# Altium schematic symbol library Schlib1.SchLib: 390 symbols (part 3 of 5)
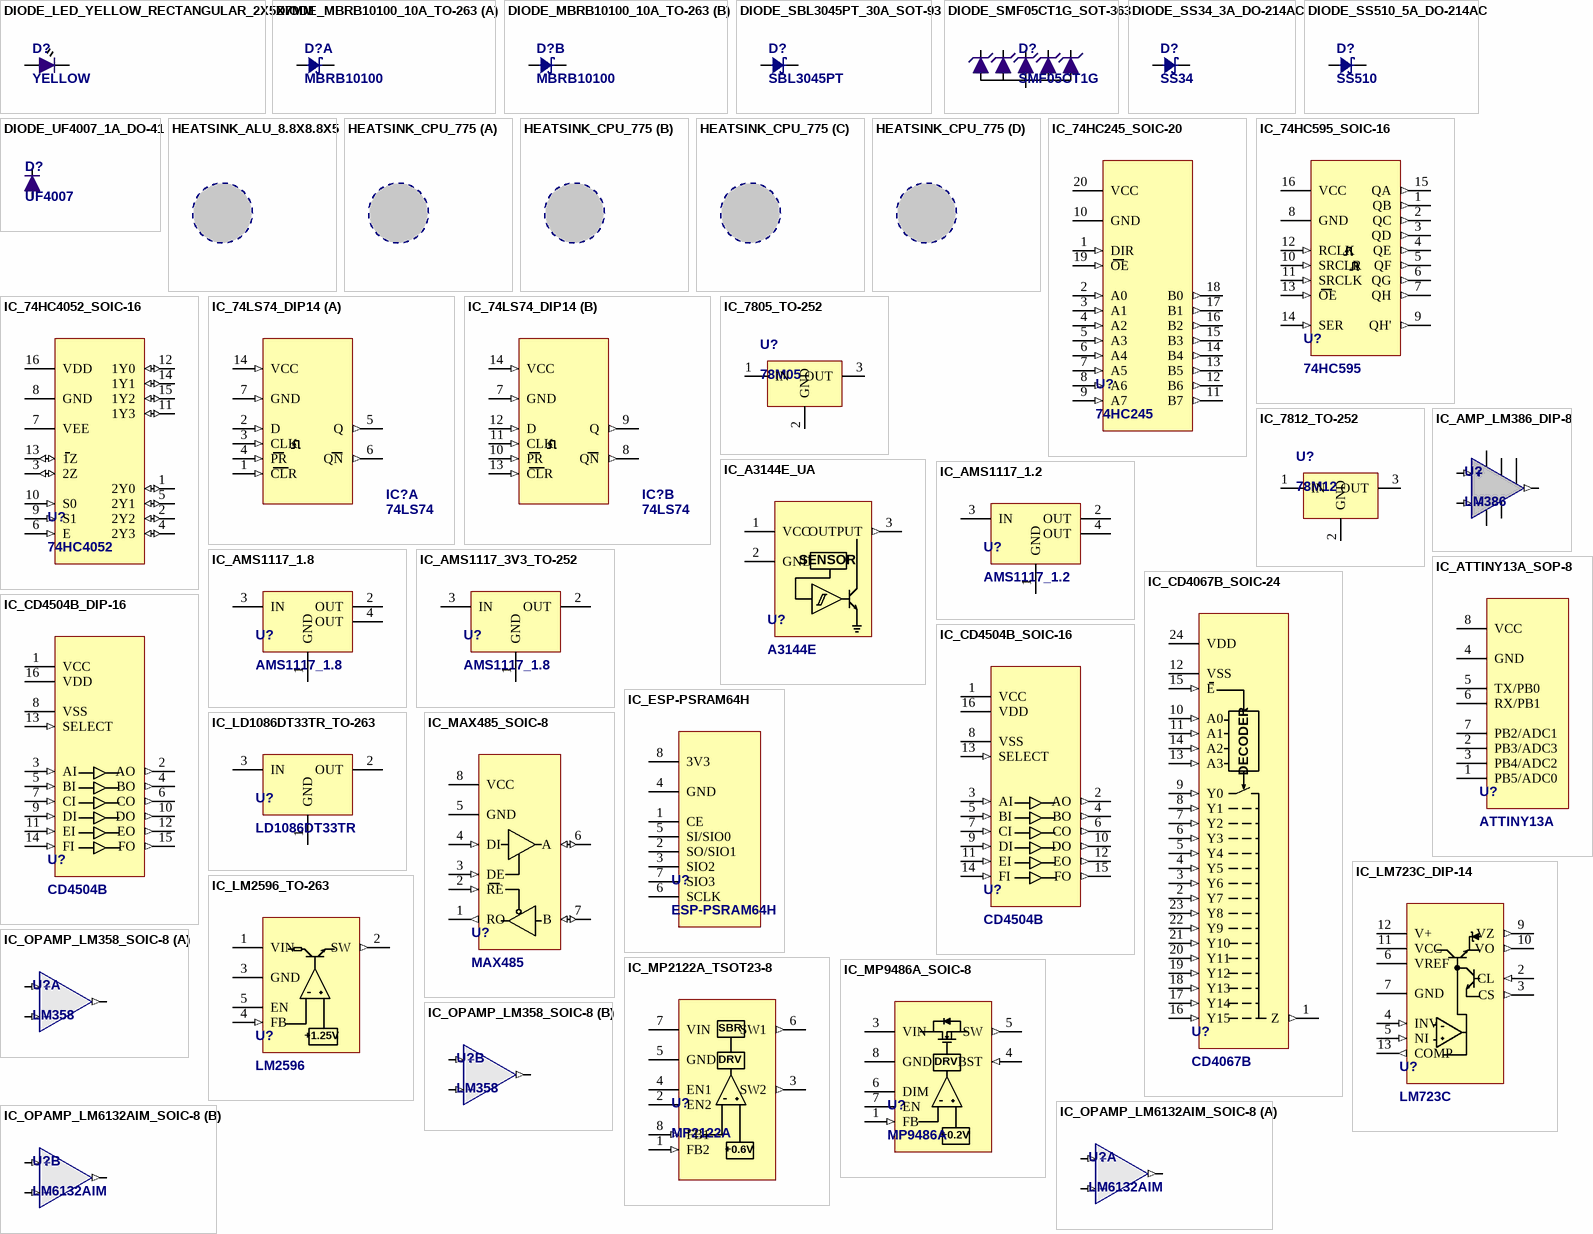
[diagram p12: symbols DIODE_LED_YELLOW_RECTANGULAR_2X5X7MM to IC_OPAMP_LM6132AIM_SOIC-8]

## IC_AMS1117_1.8
designator U?, comment AMS1117_1.8
1A LOW DROPOUT VOLTAGE REGULATOR, Vmax 15; Container: COMMON_IC; ComponentLink1Description: Datasheet; ComponentLink1URL: E:\NEW_DATA\ELECTRONIC_DOCUMENT\DATASHEET\ds1117.pdf; Price: 0.027; Package: SMD; Stock: 3; Label: AMS1117; Manufacturer: https://shopee.vn/Set-70-B%E1%BB%99-%C4%90i%E1%BB%81u-Ch%E1%BB%89nh-%C4%90i%E1%BB%87n-%C3%81p-AMS1117-1.2V-1.5V-1.8V-2.5V-3.3V-5.0V-ADJ-AMS1117-3.3V-AMS1117-3.3-AMS1117-5.0-7-Gi%C3%A1-Tr%E1%BB%8B-M%E1%BB%97i-Lo%E1%BA%A1i-i.778834786.19805430939?sp_atk=74066310-54b3-4280-a069-18140e90727b&xptdk=74066310-54b3-4280-a069-18140e90727b; Temperature Range: -40 to +125 degC
footprint SOT223(1234)
simulation model NCP1117_18-X ($)
pins: 1 GND, 2 OUT (power), 3 IN (power), 4 OUT

## IC_AMS1117_3V3_TO-252
designator U?, comment AMS1117_1.8
1A LOW DROPOUT VOLTAGE REGULATOR, Vmax 15V; Container: COMMON_IC; ComponentLink1Description: Datasheet; ComponentLink1URL: E:\NEW_DATA\ELECTRONIC_DOCUMENT\DATASHEET\ds1117.pdf; Price: 0.11; Package: SMD; Stock: 10; Label: AMS1117; Manufacturer: https://shopee.vn/Set-70-B%E1%BB%99-%C4%90i%E1%BB%81u-Ch%E1%BB%89nh-%C4%90i%E1%BB%87n-%C3%81p-AMS1117-1.2V-1.5V-1.8V-2.5V-3.3V-5.0V-ADJ-AMS1117-3.3V-AMS1117-3.3-AMS1117-5.0-7-Gi%C3%A1-Tr%E1%BB%8B-M%E1%BB%97i-Lo%E1%BA%A1i-i.778834786.19805430939?sp_atk=74066310-54b3-4280-a069-18140e90727b&xptdk=74066310-54b3-4280-a069-18140e90727b; Temperature Range: -40 to +125 degC
footprint TO252
simulation model NCP1117_33-X ($)
footprint TO252AA
pins: 1 GND, 2 OUT (power), 3 IN (power)

## IC_ATTINY13A_SOP-8
designator U?, comment ATTINY13A
tinyAVR® Data Sheet, Fmax 500kHz, 1KB Flash, 64 Bytes EEPROM, 64 Bytes SRAM, Vcc=2~6V, 4 channel ADC, Timer.; Container: COMMON_IC; Label: MODULATORS; ComponentLink1Description: Datasheet; ComponentLink1URL: E:\NEW_DATA\ELECTRONIC_DOCUMENT\DATASHEET\ATtiny13A-Data-Sheet-DS40002307A.pdf; Package: TH; Stock: 0; Temperature Range: -25 to +85 degC
footprint SOIC-8S (SOIC, 8-Leads, Body 4.9x3.9mm, Pitch 1.27mm, IPC High Density)
pins: 1 PB5/ADC0 (power), 2 PB3/ADC3 (power), 3 PB4/ADC2 (power), 4 GND (power), 5 TX/PB0 (power), 6 RX/PB1 (power), 7 PB2/ADC1 (power), 8 VCC (power)

## IC_CD4067B_SOIC-24
designator U?, comment CD4067B
16-Channel analog multiplexer/demultiplexer.; Container: DIGITAL_IC; Label: CD4067; Price: 0.63; Package: SMD; Stock: 0; Manufacturer: https://detail.tmall.com/item.htm?spm=a230r.1.14.18.6abd6925rc8xFr&id=43788809502&ns=1&abbucket=16; Temperature Range: -40 to +85 degC; ComponentLink1Description: Datasheet; ComponentLink1URL: E:\NEW_DATA\ELECTRONIC_DOCUMENT\DATASHEET\HEF4067B.pdf
footprint SOIC-24 (SOIC, 24-Leads, Body 15.30x7.50mm, Pitch 1.27mm, IPC Medium Density)
pins: 1 Z (out), 2 Y7 (in), 3 Y6 (in), 4 Y5 (in), 5 Y4 (in), 6 Y3 (in), 7 Y2 (in), 8 Y1 (in), 9 Y0 (in), 10 A0 (in), 11 A1 (in), 12 VSS (power), 13 A3 (in), 14 A2 (in), 15 E (in), 16 Y15 (in), 17 Y14 (in), 18 Y13 (in), 19 Y12 (in), 20 Y11 (in), 21 Y10 (in), 22 Y9 (in), 23 Y8 (in), 24 VDD (power)
text: DECODER

## IC_CD4504B_DIP-16
designator U?, comment CD4504B
Hex Voltage Level Shifter, CMOS to CMOS or TTL to CMOS.; Container: DIGITAL_IC; ComponentLink1Description: Datasheet; ComponentLink1URL: E:\NEW_DATA\ELECTRONIC_DOCUMENT\DATASHEET\CD4504B.pdf; Package: TH; Price: 0.16; Label: CD4504B; Manufacturer: https://item.taobao.com/item.htm?spm=a230r.1.14.18.352b3781l4X1rw&id=527105592533&ns=1&abbucket=16#detail; Temperature Range: -55 to +125 degC; Stock: 0
footprint DIP16
footprint DIP16_SOCKET (16 PIN, W 300mil, Pin to pin 100mil)
pins: 1 VCC (power), 2 AO (out), 3 AI (in), 4 BO (out), 5 BI (in), 6 CO (out), 7 CI (in), 8 VSS (power), 9 DI (in), 10 DO (out), 11 EI (in), 12 EO (out), 13 SELECT (in), 14 FI (in), 15 FO (out), 16 VDD (power)

## IC_CD4504B_SOIC-16
designator U?, comment CD4504B
Hex Voltage Level Shifter, CMOS to CMOS or TTL to CMOS.; Container: DIGITAL_IC; ComponentLink1Description: Datasheet; ComponentLink1URL: E:\NEW_DATA\ELECTRONIC_DOCUMENT\DATASHEET\CD4504B.pdf; Package: SMD; Price: 0.17; Label: CD4504B; Manufacturer: https://item.taobao.com/item.htm?spm=a230r.1.14.23.352b3781l4X1rw&id=667706103926&ns=1&abbucket=16#detail; Temperature Range: -55 to +125 degC; Stock: 0
footprint SOIC-16S (SOIC, 16-Leads, Body 9.90x3.91mm, Pitch 1.27mm, IPC Medium Density)
pins: 1 VCC (power), 2 AO (out), 3 AI (in), 4 BO (out), 5 BI (in), 6 CO (out), 7 CI (in), 8 VSS (power), 9 DI (in), 10 DO (out), 11 EI (in), 12 EO (out), 13 SELECT (in), 14 FI (in), 15 FO (out), 16 VDD (power)

## IC_ESP-PSRAM64H
designator U?, comment ESP-PSRAM64H
The ESP-PSRAM64 and ESP-PSRAM64H are 64 Mbit serial pseudo SRAM devices that are / organized as 8Mx8 bits. 133MHz; Container: ICs_Box; Label: MCU; Temperature Range: -40 to +125 degC; Price: 0.64; Package: SMD; Stock: 0; Manufacturer: https://item.taobao.com/item.htm?spm=a230r.1.14.27.28282b4cdeEypb&id=730171973763&ns=1&abbucket=14#detail; ComponentLink1Description: Datasheet; ComponentLink1URL: E:\NEW_DATA\ELECTRONIC_DOCUMENT\DATASHEET\esp-psram64_esp-psram64h_datasheet_en.pdf
footprint SOIC-8S (SOIC, 8-Leads, Body 4.9x3.9mm, Pitch 1.27mm, IPC High Density)
pins: 1 CE, 2 SO/SIO1, 3 SIO2, 4 GND (power), 5 SI/SIO0, 6 SCLK, 7 SIO3, 8 3V3 (power)

## IC_LD1086DT33TR_TO-263
designator U?, comment LD1086DT33TR
1.5A adjustable and fixed low drop positive voltage regulator. (LDO); Container: COMMON_IC; Value: 3.3; ComponentLink1Description: Datasheet; ComponentLink1URL: E:\NEW_DATA\ELECTRONIC_DOCUMENT\DATASHEET\LD1086_.pdf; Package: SMD; Stock: 0; Label: LD1086DT33TR; Manufacturer: https://item.taobao.com/item.htm?spm=a230r.1.14.13.55f64175xiLaOh&id=677064758131&ns=1&abbucket=16#detail; Temperature Range: -40 to +125 degC; Price: 0.2
footprint TO263-D2PAK
pins: 1 GND, 2 OUT (power), 3 IN (power)

## IC_LM723C_DIP-14
designator U?, comment LM723C
LM723/LM723C Voltage Regulator; Container: COMMON_IC; Price: 0.3; Package: TH; Stock: 0; Label: REGULATOR; Manufacturer: https://shopee.vn/Set-10-Linh-Ki%E1%BB%87n-%C4%90i%E1%BB%87n-T%E1%BB%AD-LM723CN-LM723-DIP-14-MC1723CP-UA723CN-LM556CN-LM1011N-LM4863D-LM4863-LM7001-LM1894N-LM13700N-LM13700-DIP-16-M%E1%BB%9Bi-i.840601719.21534063579?sp_atk=40795b10-f25c-4263-990b-e98286d57676&xptdk=40795b10-f25c-4263-990b-e98286d57676; Temperature Range: 0 to +70 degC; ComponentLink1Description: Datasheet; ComponentLink1URL: E:\NEW_DATA\ELECTRONIC_DOCUMENT\DATASHEET\lm723_2.pdf
footprint DIP14_SOCKET
footprint DIP14 (DIP, 14-Leads, Row Spacing 7.62mm, Pitch 2.54mm, Body 19.2x6.6mm)
pins: 2 CL (in), 3 CS (out), 4 INV (in), 5 NI (in), 6 VREF (power), 7 GND (power), 9 VZ (out), 10 VO (out), 11 VCC (power), 12 V+ (power), 13 COMP (out)

## IC_LM2596_TO-263
designator U?, comment LM2596
LM2596 SIMPLE SWITCHER® Power Converter 150-kHz 3-A Step-Down Voltage Regulator.; Container: COMMON_IC; Label: MODULATORS; ComponentLink1Description: Datasheet; ComponentLink1URL: E:\NEW_DATA\ELECTRONIC_DOCUMENT\DATASHEET\lm2596.pdf; Package: SMD; Stock: 0; Manufacturer: https://shopee.vn/Set-10-linh-ki%E1%BB%87n-%C4%91i%E1%BB%87n-t%E1%BB%AD-LM2596T-5.0-LM2596T-LM2596-TO-220-5-i.409883163.12032696722?sp_atk=6437e43c-a3ae-49c6-bb8f-abf71851271e&xptdk=6437e43c-a3ae-49c6-bb8f-abf71851271e; Temperature Range: -25 to +85 degC; Price: 0.26
footprint TO263
pins: 1 VIN (power), 2 SW (out), 3 GND (power), 4 FB (in), 5 EN (power)
text: +1.25V

## IC_MAX485_SOIC-8
designator U?, comment MAX485
Low-Power, Slew-Rate-Limited / RS-485/RS-422 Transceivers. (UART TO RS485); Container: DIGITAL_IC; Price: 0.077; Package: SMD; Stock: 0; Label: MAX485; Manufacturer: https://shopee.vn/B%E1%BB%99-10-Linh-Ki%E1%BB%87n-%C4%90i%E1%BB%87n-T%E1%BB%AD-MAX202CSE-MAX232CSE-MAX3232CSE-MAX3485ESA-MAX485ESA-MAX487CSA-MAX202-MAX232-MAX3232-MAX3485-MAX485-MAX487-SOP-SOP16-i.778834786.15887915176; Temperature Range: -40 to +85 degC; ComponentLink1Description: Datasheet; ComponentLink1URL: E:\NEW_DATA\ELECTRONIC_DOCUMENT\DATASHEET\MAX485.pdf
footprint SOIC-8S (SOIC, 8-Leads, Body 4.9x3.9mm, Pitch 1.27mm, IPC High Density)
pins: 1 RO (out), 2 RE (in), 3 DE (in), 4 DI (in), 5 GND (power), 6 A (io), 7 B (io), 8 VCC (power)

## IC_MP2122A_TSOT23-8
designator U?, comment MP2122A
6V, 2A, Low Quiescent Current, Dual, Synchronous Buck Regulator.; Container: COMMON_IC; Label: MODULATORS; ComponentLink1Description: Datasheet; ComponentLink1URL: E:\NEW_DATA\ELECTRONIC_DOCUMENT\DATASHEET\MP2122AGJ.pdf; Package: SMD; Stock: 0; Manufacturer: https://item.taobao.com/item.htm?spm=a1z10.3-c.w4002-13200233413.10.20dd27e9oBe2Jh&id=712646464175; Temperature Range: -40 to +125 degC; Price: 0.151
footprint SOT23-8P
pins: 1 FB2 (in), 2 EN2 (power), 3 SW2 (out), 4 EN1 (power), 5 GND (power), 6 SW1 (out), 7 VIN (power), 8 FB1 (in)
text: SBR; DRV; +0.6V

## IC_MP9486A_SOIC-8
designator U?, comment MP9486A
100V Input, 3.5A, Switching Current Limit Step-Down Converter. Fmax 1MHz.; Container: COMMON_IC; Label: MODULATORS; ComponentLink1Description: Datasheet; ComponentLink1URL: E:\NEW_DATA\ELECTRONIC_DOCUMENT\DATASHEET\MP9486AGN_Z-2946390.pdf; Package: SMD; Stock: 0; Manufacturer: https://item.taobao.com/item.htm?spm=a1z10.3-c.w4002-13200233413.21.22ef27e9qHmMvJ&id=602841797724; Temperature Range: -40 to +125 degC; Price: 0.33
footprint SOIC-8S (SOIC, 8-Leads, Body 4.9x3.9mm, Pitch 1.27mm, IPC High Density)
pins: 1 FB (in), 3 VIN (power), 4 BST (in), 5 SW (out), 6 DIM (power), 7 EN (power), 8 GND (power)
text: DRV; +0.2V

## IC_OPAMP_LM358_SOIC-8
designator U?, comment LM358
LMx58-N Low-Power, Dual-Operational Amplifiers, Single, Dual.; Container: ANALOG_IC_BOX; Label: OPAMP; Price: 0.034; Package: SMD; Stock: 0; Manufacturer: https://shopee.vn/Set-10-Chip-%C4%90i%E1%BB%87n-T%E1%BB%AD-LM224-LM258-NE555-LM2902-LM2903-LM2904-LM311-LM324-LM339-LM358-LM386-LM393-SOP-LM324DR-LM358DR-Chuy%C3%AAn-D%E1%BB%A5ng-i.778834786.16770700042; Temperature Range: 0 to +70 degC; ComponentLink1Description: Datasheet; ComponentLink1URL: E:\NEW_DATA\ELECTRONIC_DOCUMENT\DATASHEET\LM358_LM158_LM258_LM2904.pdf
footprint SOIC-8S (SOIC, 8-Leads, Body 4.9x3.9mm, Pitch 1.27mm, IPC High Density)
simulation model LM358 ($)
pins on every part: 4 V- (power) hidden to V+, 8 V+ (power) hidden to V+
part A pins: 1 OUT (out), 2 -IN (in), 3 +IN (in)
part B pins: 5 +IN (in), 6 -IN (in), 7 OUT (out)

## IC_OPAMP_LM6132AIM_SOIC-8
designator U?, comment LM6132AIM
LM6132/LM6134 Dual and Quad Low Power 10 MHz Rail-to-Rail I/O Operational Amplifiers.; Container: ANALOG_IC_BOX; Label: OPAMP; Price: 0.16; Package: SMD; Stock: 4; Manufacturer: https://shopee.vn/50pcs-LM6132AIM-SOP8-Imitation-i.101758806.7452278600; Temperature Range: -40 to +85 degC; ComponentLink1Description: Datasheet; ComponentLink1URL: E:\NEW_DATA\ELECTRONIC_DOCUMENT\DATASHEET\lm6134.pdf
footprint SOIC-8S (SOIC, 8-Leads, Body 4.9x3.9mm, Pitch 1.27mm, IPC High Density)
simulation model LM6132A/NS ($)
pins on every part: 4 V- (power) hidden to V+, 8 V+ (power) hidden to V+
part A pins: 1 OUT (out), 2 -IN (in), 3 +IN (in)
part B pins: 5 +IN (in), 6 -IN (in), 7 OUT (out)

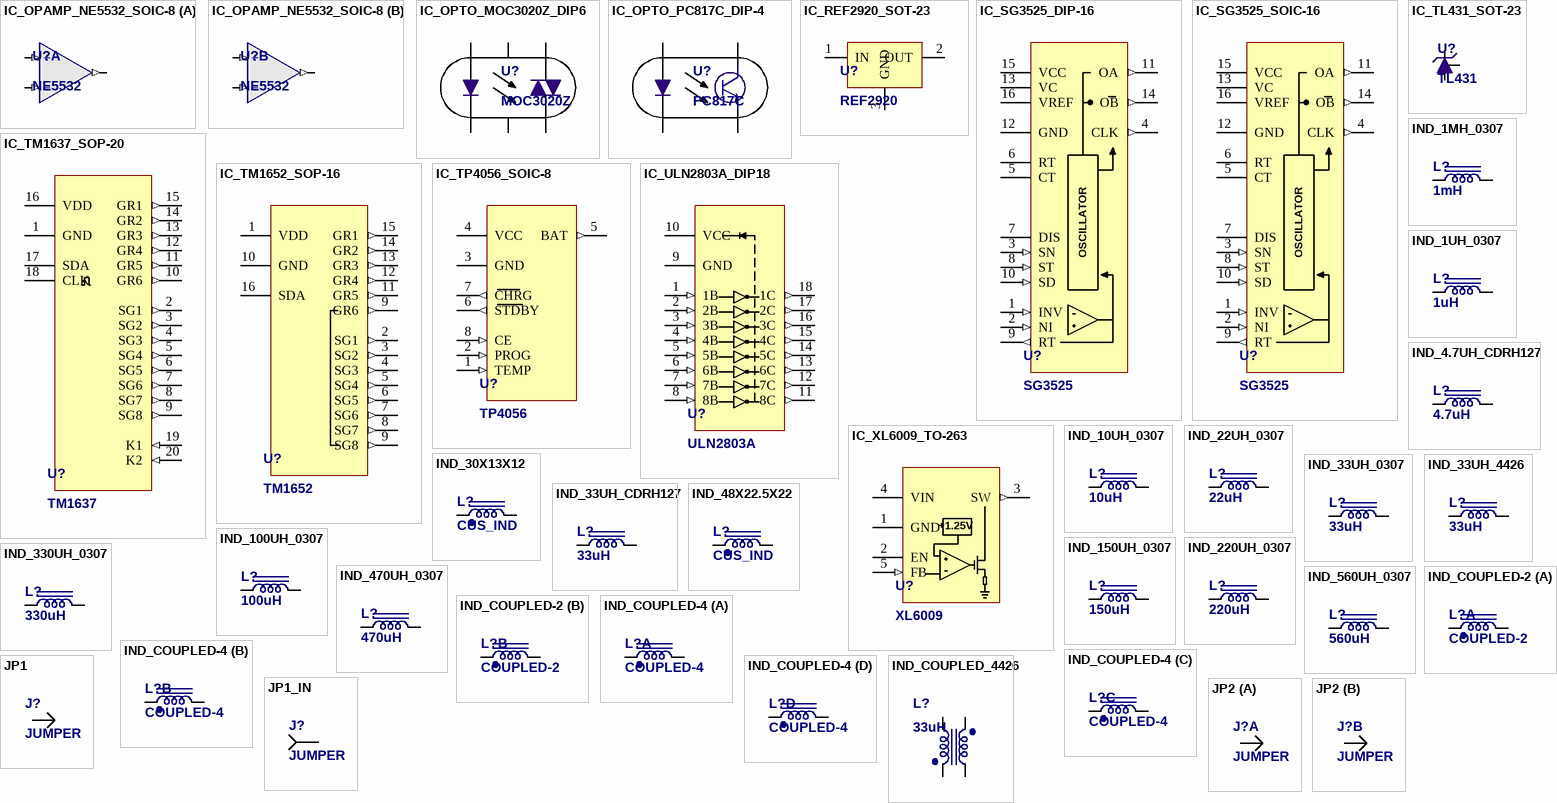
[diagram p5: symbols IC_OPAMP_NE5532_SOIC-8 to JP2]

## IC_OPAMP_NE5532_SOIC-8
designator U?, comment NE5532
NE5532x, SA5532x Dual Low-Noise Operational Amplifiers.; Container: ANALOG_IC_BOX; Label: OPAMP; Price: 0.133; Package: SMD; Stock: 11; Manufacturer: https://shopee.vn/Set-20-Linh-Ki%E1%BB%87n-%C4%90i%E1%BB%87n-T%E1%BB%AD-NE5532DR-SOP8-NE5532-SOP-N5532-5532DR-SOP-8-SMD-Chuy%C3%AAn-D%E1%BB%A5ng-i.954274863.23824593163?sp_atk=b687206c-d197-40a7-9d70-90e3cf2b2040&xptdk=b687206c-d197-40a7-9d70-90e3cf2b2040; Temperature Range: -40 to +85 degC; ComponentLink1Description: Datasheet; ComponentLink1URL: E:\NEW_DATA\ELECTRONIC_DOCUMENT\DATASHEET\ne5532.pdf
footprint SOIC-8S (SOIC, 8-Leads, Body 4.9x3.9mm, Pitch 1.27mm, IPC High Density)
simulation model NE5532 ($)
pins on every part: 4 V- (power) hidden to V+, 8 V+ (power) hidden to V+
part A pins: 1 OUT (out), 2 -IN (in), 3 +IN (in)
part B pins: 5 +IN (in), 6 -IN (in), 7 OUT (out)

## IC_OPTO_MOC3020Z_DIP6
designator U?, comment MOC3020Z
OPTO-ISOLATOR LED-PTRIAC IF=50mA-max. (Photocouplers); Container: COMMON_IC; Price: 0.1; Package: TH; Stock: 0; Label: MOC3020Z; Manufacturer: https://shopee.vn/Set-10-Chip-DIP6-MOC3010-MOC3020-MOC3021-MOC3022-MOC3041-MOC3043-MOC3052-MOC3061-MOC3062-MOC3063-MOC3083-Ch%E1%BA%A5t-L%C6%B0%E1%BB%A3ng-Cao-i.778834786.17073096002; Temperature Range: -40 to +100 degC; ComponentLink1Description: Datasheet; ComponentLink1URL: E:\NEW_DATA\ELECTRONIC_DOCUMENT\DATASHEET\MOC3020.pdf
footprint DIP6
pins: 1, 2, 3, 4, 5, 6

## IC_OPTO_PC817C_DIP-4
designator U?, comment PC817C
PC817X Series, DIP 4pin General, Purpose Photocoupler.; Container: COMMON_IC; Price: 0.1; Package: TH; Stock: 4; Label: PC817C; Manufacturer: https://shopee.vn/S%E1%BA%A3n-ph%E1%BA%A9m-Opto-PC817-Sharp-5V-5mA-i.311128107.8022468113; Temperature Range: -30 to +100 degC; ComponentLink1Description: Datasheet; ComponentLink1URL: E:\NEW_DATA\ELECTRONIC_DOCUMENT\DATASHEET\PC817X Series.pdf
footprint DIP4
simulation model PC817 (Copyright © Linear Technology Corp. 1998, 1999, 2000.  All rights reserved)
pins: 1, 2, 3, 4

## IC_REF2920_SOT-23
designator U?, comment REF2920
REF29xx 100 ppm/°C, 50 µA in 3-Pin SOT-23 CMOS Voltage Reference; Container: COMMON_IC; ComponentLink1Description: Datasheet; ComponentLink1URL: E:\NEW_DATA\ELECTRONIC_DOCUMENT\DATASHEET\ref2920.pdf; Package: SMD; Stock: 0; Label: REF2920; Manufacturer: https://item.taobao.com/item.htm?spm=a230r.1.14.8.7d12440ejOKZL4&id=659006108651&ns=1&abbucket=16#detail; Temperature Range: -40 to +125 degC; Price: 0.46
footprint SOT23(132)
pins: 1 IN (power), 2 OUT (power), 3 GND

## IC_SG3525_DIP-16
designator U?, comment SG3525
REGULATING PULSE WIDTH MODULATORS, Fmax 500kHz, Fmin 100Hz, Vcc=8~35V, Soft-start, Deadtime control.; Container: COMMON_IC; ComponentLink1Description: Datasheet; ComponentLink1URL: E:\NEW_DATA\ELECTRONIC_DOCUMENT\DATASHEET\sg3525.pdf; Package: TH; Stock: 0; Label: MODULATORS; Temperature Range: -25 to +85 degC
footprint DIP16_SOCKET (16 PIN, W 300mil, Pin to pin 100mil)
footprint DIP16
simulation model SG3525A ($)
pins: 1 INV (in), 2 NI (in), 3 SN (in), 4 CLK (out), 5 CT, 6 RT, 7 DIS, 8 ST (in), 9 RT (out), 10 SD (in), 11 OA (out), 12 GND (power), 13 VC (power), 14 OB (out), 15 VCC (power), 16 VREF (power)
text: OSCILLATOR

## IC_SG3525_SOIC-16
designator U?, comment SG3525
REGULATING PULSE WIDTH MODULATORS, Fmax 500kHz, Fmin 100Hz, Vcc=8~35V, Soft-start, Deadtime control.; Container: COMMON_IC; ComponentLink1Description: Datasheet; ComponentLink1URL: E:\NEW_DATA\ELECTRONIC_DOCUMENT\DATASHEET\sg3525.pdf; Package: TH; Stock: 0; Label: MODULATORS; Temperature Range: -25 to +85 degC
footprint SOIC-16 (SOIC, 16-Leads, Body 10.30x7.50mm, Pitch 1.27mm, IPC Medium Density)
footprint SOIC-16S (SOIC, 16-Leads, Body 9.90x3.91mm, Pitch 1.27mm, IPC Medium Density)
simulation model SG3525A (Model Description)
pins: 1 INV (in), 2 NI (in), 3 SN (in), 4 CLK (out), 5 CT, 6 RT, 7 DIS, 8 ST (in), 9 RT (out), 10 SD (in), 11 OA (out), 12 GND (power), 13 VC (power), 14 OB (out), 15 VCC (power), 16 VREF (power)
text: OSCILLATOR

## IC_TL431_SOT-23
designator U?, comment TL431
PROGRAMMABLE PRECISION / REFERENCE, Vmax=36V; Container: COMMON_IC; Price: 0.013; Stock: 99; Label: TL431; Manufacturer: https://shopee.vn/B%E1%BB%99-100-M%E1%BA%A1ch-%C4%90i%E1%BB%87n-SS8050-Y1-SS8550-Y2-S8050-J3Y-S8550-2TY-S9012-S9013-S9014-S9015-S9018-TL431-XC6206P332MR-SOT23-XC6206P332-i.778834786.17075451311; ComponentLink1Description: Datasheet; ComponentLink1URL: E:\NEW_DATA\ELECTRONIC_DOCUMENT\DATASHEET\TL431.pdf; Package: SMD; Temperature Range: -40 to +125 degC
footprint SOT23(132)
simulation model TL431A (Model developed by Helmut Sennewald  6/27/2004)
pins: 1 K, 2 R, 3 A

## IC_TM1637_SOP-20
designator U?, comment TM1637
7 SEGMENT, LED Drive Control Special Circuit.; Container: COMMON_IC; Label: LED_DRIVER; ComponentLink1Description: Datasheet; ComponentLink1URL: E:\NEW_DATA\ELECTRONIC_DOCUMENT\DATASHEET\TM1637.pdf; Package: TH; Stock: 0; Temperature Range: -25 to +85 degC
footprint SOIC-20 (SOIC, 20-Leads, Body 12.60x7.50mm, Pitch 1.27mm, IPC Medium Density)
pins: 1 GND (power), 2 SG1 (out), 3 SG2 (out), 4 SG3 (out), 5 SG4 (out), 6 SG5 (out), 7 SG6 (out), 8 SG7 (out), 9 SG8 (out), 10 GR6 (out), 11 GR5 (out), 12 GR4 (out), 13 GR3 (out), 14 GR2 (out), 15 GR1 (out), 16 VDD (power), 17 SDA, 18 CLK, 19 K1 (in), 20 K2 (in)

## IC_TM1652_SOP-16
designator U?, comment TM1652
7 SEGMENT, IC Driver UART 19200 bps.; Container: COMMON_IC; Label: LED_DRIVER; ComponentLink1Description: Datasheet; ComponentLink1URL: E:\NEW_DATA\ELECTRONIC_DOCUMENT\DATASHEET\datasheet_26.pdf; Package: TH; Stock: 0; Temperature Range: -25 to +85 degC
footprint SOIC-16S (SOIC, 16-Leads, Body 9.90x3.91mm, Pitch 1.27mm, IPC Medium Density)
pins: 1 VDD (power), 2 SG1 (out), 3 SG2 (out), 4 SG3 (out), 5 SG4 (out), 6 SG5 (out), 7 SG6 (out), 8 SG7 (out), 9 GR6 (out), 9 SG8 (out), 10 GND (power), 11 GR5 (out), 12 GR4 (out), 13 GR3 (out), 14 GR2 (out), 15 GR1 (out), 16 SDA

## IC_TP4056_SOIC-8
designator U?, comment TP4056
1A Standalone Linear Li-lon Battery Charger with Thermal Regulation; Container: COMMON_IC; Price: 0.76; Package: SMD; Stock: 0; Label: TP4056; Manufacturer: https://item.taobao.com/item.htm?spm=a1z10.3-c-s.w4002-23047171155.14.7e1b59894GoZna&id=731326274830; Temperature Range: -40 to +125 degC; ComponentLink1Description: Datasheet; ComponentLink1URL: E:\NEW_DATA\ELECTRONIC_DOCUMENT\DATASHEET\TP4056.pdf
footprint SOIC-8S/H (SOIC, 8-Leads, Body 4.9x3.9mm, Pitch 1.27mm, IPC High Density)
pins: 1 TEMP (in), 2 PROG (in), 3 GND (power), 4 VCC (power), 5 BAT (out), 6 STDBY (out), 7 CHRG (out), 8 CE (in)

## IC_ULN2803A_DIP18
designator U?, comment ULN2803A
Darlington Transistor Arrays, Relay Drivers, Lamp Drivers.; Package: TH; ComponentLink1Description: Datasheet; ComponentLink1URL: E:\NEW_DATA\ELECTRONIC_DOCUMENT\DATASHEET\uln2803a.pdf
footprint DIP18 (DIP; 18 Leads; Row Spacing 7.62 mm; Pitch 2.54 mm)
footprint DIP18_SOCKET
pins: 1 1B (in), 2 2B (in), 3 3B (in), 4 4B (in), 5 5B (in), 6 6B (in), 7 7B (in), 8 8B (in), 9 GND (power), 10 VCC (power), 11 8C (out), 12 7C (out), 13 6C (out), 14 5C (out), 15 4C (out), 16 3C (out), 17 2C (out), 18 1C (out)

## IC_XL6009_TO-263
designator U?, comment XL6009
400KHz 42V 5A Switching Current Boost DC/DC Converter, Wide 3.6V to 36V Input Voltage Range.; Container: COMMON_IC; Label: MODULATORS; ComponentLink1Description: Datasheet; ComponentLink1URL: E:\NEW_DATA\ELECTRONIC_DOCUMENT\DATASHEET\XL6009.pdf; Package: SMD; Stock: 0; Manufacturer: https://shopee.vn/B%E1%BB%99-5-Linh-Ki%E1%BB%87n-%C4%90i%E1%BB%87n-T%E1%BB%AD-XL4015E1-HS4015E1-TO263-XL4015-TO263-5-4015E1-TO-263-IBUW-XL4005E1-XL4005-XL6006E1-XL6006-XL6009E1-XL6009-XL6019E1-XL6019-i.827232370.11197288834?sp_atk=157a3557-8b9b-4be9-acdb-b91832632816&xptdk=157a3557-8b9b-4be9-acdb-b91832632816; Temperature Range: -25 to +85 degC; Price: 0.35
footprint TO263
pins: 1 GND (power), 2 EN (power), 3 SW (out), 4 VIN (power), 5 FB (in)
text: +1.25V

## IND_1MH_0307
designator L?, comment 1mH
AXIAL LEAD TYPE INDUCTOR, Imax=40mA; Container: Inductors_Box; Label: P1023; Price: 0.009; Package: TH; Stock: 20; Manufacturer: https://shopee.vn/Set-120-linh-ki%E1%BB%87n-c%E1%BA%A3m-bi%E1%BA%BFn-0307-1-4W-1UH-1MH-chuy%C3%AAn-d%E1%BB%A5ng-i.101758806.1635771597?sp_atk=b230f303-f7a3-41c0-924c-66657cfaaa63&xptdk=b230f303-f7a3-41c0-924c-66657cfaaa63; Temperature Range: -25 to +85 degC; Value: 1mH; ComponentLink1Description: Datasheet; ComponentLink1URL: E:\NEW_DATA\ELECTRONIC_DOCUMENT\DATASHEET\AXAIL_IND.pdf
simulation model Inductor (Basic inductor)
footprint IND_1mH_AXIAL_300MIL
footprint IND_1mH_AXIAL_200MIL
footprint IND_1mH_AXIAL_300MIL
pins: 1, 2

## IND_1UH_0307
designator L?, comment 1uH
AXIAL LEAD TYPE INDUCTOR, Imax=270mA; Container: Inductors_Box; Label: P1023; Price: 0.009; Package: TH; Stock: 20; Manufacturer: https://shopee.vn/Set-120-linh-ki%E1%BB%87n-c%E1%BA%A3m-bi%E1%BA%BFn-0307-1-4W-1UH-1MH-chuy%C3%AAn-d%E1%BB%A5ng-i.101758806.1635771597?sp_atk=b230f303-f7a3-41c0-924c-66657cfaaa63&xptdk=b230f303-f7a3-41c0-924c-66657cfaaa63; Temperature Range: -25 to +85 degC; Value: 1uH; ComponentLink1Description: Datasheet; ComponentLink1URL: E:\NEW_DATA\ELECTRONIC_DOCUMENT\DATASHEET\AXAIL_IND.pdf
simulation model Inductor (Basic inductor)
footprint IND_1UH_AXIAL_300MIL
footprint IND_1UH_AXIAL_200MIL
footprint IND_1UH_AXIAL_100MIL
pins: 1, 2

## IND_4.7UH_CDRH127
designator L?, comment 4.7uH
POWER INDUCTORS, Imax=6.8A; Container: Inductors_Box; Label: CDRH127; Price: 0.074; Package: SMD; Stock: 0; Manufacturer: https://item.taobao.com/item.htm?spm=a1z10.3-c-s.w4002-24706531953.11.57356a4bLTPXn4&id=522553835885; Temperature Range: -40 to +125 degC; Value: 4.7uH; ComponentLink1Description: Datasheet; ComponentLink1URL: E:\NEW_DATA\ELECTRONIC_DOCUMENT\DATASHEET\CDRH127,127LD-514245.pdf
simulation model Inductor (Basic inductor)
footprint IND_CDRH127
pins: 1, 2

## IND_10UH_0307
designator L?, comment 10uH
AXIAL LEAD TYPE INDUCTOR, Imax=160mA; Container: Inductors_Box; Label: P1023; Price: 0.009; Package: TH; Stock: 20; Manufacturer: https://shopee.vn/Set-120-linh-ki%E1%BB%87n-c%E1%BA%A3m-bi%E1%BA%BFn-0307-1-4W-1UH-1MH-chuy%C3%AAn-d%E1%BB%A5ng-i.101758806.1635771597?sp_atk=b230f303-f7a3-41c0-924c-66657cfaaa63&xptdk=b230f303-f7a3-41c0-924c-66657cfaaa63; Temperature Range: -25 to +85 degC; Value: 10uH; ComponentLink1Description: Datasheet; ComponentLink1URL: E:\NEW_DATA\ELECTRONIC_DOCUMENT\DATASHEET\AXAIL_IND.pdf
simulation model Inductor (Basic inductor)
footprint IND_10UH_AXIAL_300MIL
footprint IND_10UH_AXIAL_200MIL
footprint IND_10UH_AXIAL_100MIL
pins: 1, 2

## IND_22UH_0307
designator L?, comment 22uH
AXIAL LEAD TYPE INDUCTOR, Imax=130mA; Container: Inductors_Box; Label: P1023; Price: 0.009; Package: TH; Stock: 20; Manufacturer: https://shopee.vn/Set-120-linh-ki%E1%BB%87n-c%E1%BA%A3m-bi%E1%BA%BFn-0307-1-4W-1UH-1MH-chuy%C3%AAn-d%E1%BB%A5ng-i.101758806.1635771597?sp_atk=b230f303-f7a3-41c0-924c-66657cfaaa63&xptdk=b230f303-f7a3-41c0-924c-66657cfaaa63; Temperature Range: -25 to +85 degC; Value: 22uH; ComponentLink1Description: Datasheet; ComponentLink1URL: E:\NEW_DATA\ELECTRONIC_DOCUMENT\DATASHEET\AXAIL_IND.pdf
simulation model Inductor (Basic inductor)
footprint IND_22UH_AXIAL_300MIL
footprint IND_22UH_AXIAL_200MIL
footprint IND_22UH_AXIAL_100MIL
pins: 1, 2

## IND_30X13X12
designator L?, comment CUS_IND
CUSTOM INDUCTOR 30X13X12; Container: Inductors_Box; Label: CUSTOM_IND; Price: 0; Package: TH; Stock: 0; Temperature Range: -40 to +125 degC
footprint IND_30X13X12
pins: 1, 2

## IND_33UH_0307
designator L?, comment 33uH
AXIAL LEAD TYPE INDUCTOR, Imax=120mA; Container: Inductors_Box; Label: P1023; Price: 0.009; Package: TH; Stock: 20; Manufacturer: https://shopee.vn/Set-120-linh-ki%E1%BB%87n-c%E1%BA%A3m-bi%E1%BA%BFn-0307-1-4W-1UH-1MH-chuy%C3%AAn-d%E1%BB%A5ng-i.101758806.1635771597?sp_atk=b230f303-f7a3-41c0-924c-66657cfaaa63&xptdk=b230f303-f7a3-41c0-924c-66657cfaaa63; Temperature Range: -25 to +85 degC; Value: 33uH; ComponentLink1Description: Datasheet; ComponentLink1URL: E:\NEW_DATA\ELECTRONIC_DOCUMENT\DATASHEET\AXAIL_IND.pdf
simulation model Inductor (Basic inductor)
footprint IND_33UH_AXIAL_300MIL
footprint IND_33UH_AXIAL_200MIL
footprint IND_33UH_AXIAL_100MIL
pins: 1, 2

## IND_33UH_4426
designator L?, comment 33uH
AXIAL LEAD TYPE INDUCTOR, Imax=120mA; Container: Inductors_Box; Label: 4426_33uH; Price: 0.1; Package: TH; Stock: 1; Manufacturer: https://shopee.vn/Set-10-Cu%E1%BB%99n-D%C3%A2y-C%E1%BA%A3m-%E1%BB%A8ng-T%E1%BB%AB-T%C3%ADnh-5026-33-47-68-100UH-6A-i.81431289.15993908560; Temperature Range: -40 to +125 degC; Value: 33uH; ComponentLink1Description: Datasheet; ComponentLink1URL: E:\NEW_DATA\ELECTRONIC_DOCUMENT\DATASHEET\CWS-1TC-11892 REV.A1.pdf
simulation model Inductor (Basic inductor)
footprint IND_4426
pins: 1, 2

## IND_33UH_CDRH127
designator L?, comment 33uH
POWER INDUCTORS, Imax=3A; Container: Inductors_Box; Label: CDRH127; Price: 0.074; Package: SMD; Stock: 0; Manufacturer: https://item.taobao.com/item.htm?spm=a1z10.3-c-s.w4002-24706531953.11.57356a4bLTPXn4&id=522553835885; Temperature Range: -40 to +125 degC; Value: 33uH; ComponentLink1Description: Datasheet; ComponentLink1URL: E:\NEW_DATA\ELECTRONIC_DOCUMENT\DATASHEET\CDRH127,127LD-514245.pdf
simulation model Inductor (Basic inductor)
footprint IND_CDRH127
pins: 1, 2

## IND_48X22.5X22
designator L?, comment CUS_IND
CUSTOM INDUCTOR 48X22.5X22; Container: Inductors_Box; Label: CUSTOM_IND; Price: 0; Package: TH; Stock: 0; Temperature Range: -40 to +125 degC
footprint IND_48X22.5X22
pins: 1, 2

## IND_100UH_0307
designator L?, comment 100uH
AXIAL LEAD TYPE INDUCTOR, Imax=90mA; Container: Inductors_Box; Label: P1023; Price: 0.009; Package: TH; Stock: 20; Manufacturer: https://shopee.vn/Set-120-linh-ki%E1%BB%87n-c%E1%BA%A3m-bi%E1%BA%BFn-0307-1-4W-1UH-1MH-chuy%C3%AAn-d%E1%BB%A5ng-i.101758806.1635771597?sp_atk=b230f303-f7a3-41c0-924c-66657cfaaa63&xptdk=b230f303-f7a3-41c0-924c-66657cfaaa63; Temperature Range: -25 to +85 degC; Value: 100uH; ComponentLink1Description: Datasheet; ComponentLink1URL: E:\NEW_DATA\ELECTRONIC_DOCUMENT\DATASHEET\AXAIL_IND.pdf
simulation model Inductor (Basic inductor)
footprint IND_100UH_AXIAL_300MIL
footprint IND_100UH_AXIAL_200MIL
footprint IND_100UH_AXIAL_100MIL
pins: 1, 2

## IND_150UH_0307
designator L?, comment 150uH
AXIAL LEAD TYPE INDUCTOR, Imax=85mA; Container: Inductors_Box; Label: P1023; Price: 0.009; Package: TH; Stock: 20; Manufacturer: https://shopee.vn/Set-120-linh-ki%E1%BB%87n-c%E1%BA%A3m-bi%E1%BA%BFn-0307-1-4W-1UH-1MH-chuy%C3%AAn-d%E1%BB%A5ng-i.101758806.1635771597?sp_atk=b230f303-f7a3-41c0-924c-66657cfaaa63&xptdk=b230f303-f7a3-41c0-924c-66657cfaaa63; Temperature Range: -25 to +85 degC; Value: 150uH; ComponentLink1Description: Datasheet; ComponentLink1URL: E:\NEW_DATA\ELECTRONIC_DOCUMENT\DATASHEET\AXAIL_IND.pdf
simulation model Inductor (Basic inductor)
footprint IND_150UH_AXIAL_300MIL
footprint IND_150UH_AXIAL_200MIL
footprint IND_150UH_AXIAL_100MIL
pins: 1, 2

## IND_220UH_0307
designator L?, comment 220uH
AXIAL LEAD TYPE INDUCTOR, Imax=75mA; Container: Inductors_Box; Label: P1023; Price: 0.009; Package: TH; Stock: 20; Manufacturer: https://shopee.vn/Set-120-linh-ki%E1%BB%87n-c%E1%BA%A3m-bi%E1%BA%BFn-0307-1-4W-1UH-1MH-chuy%C3%AAn-d%E1%BB%A5ng-i.101758806.1635771597?sp_atk=b230f303-f7a3-41c0-924c-66657cfaaa63&xptdk=b230f303-f7a3-41c0-924c-66657cfaaa63; Temperature Range: -25 to +85 degC; Value: 220uH; ComponentLink1Description: Datasheet; ComponentLink1URL: E:\NEW_DATA\ELECTRONIC_DOCUMENT\DATASHEET\AXAIL_IND.pdf
simulation model Inductor (Basic inductor)
footprint IND_220UH_AXIAL_300MIL
footprint IND_220UH_AXIAL_200MIL
footprint IND_220UH_AXIAL_100MIL
pins: 1, 2

## IND_330UH_0307
designator L?, comment 330uH
AXIAL LEAD TYPE INDUCTOR, Imax=60mA; Container: Inductors_Box; Label: P1023; Price: 0.009; Package: TH; Stock: 20; Manufacturer: https://shopee.vn/Set-120-linh-ki%E1%BB%87n-c%E1%BA%A3m-bi%E1%BA%BFn-0307-1-4W-1UH-1MH-chuy%C3%AAn-d%E1%BB%A5ng-i.101758806.1635771597?sp_atk=b230f303-f7a3-41c0-924c-66657cfaaa63&xptdk=b230f303-f7a3-41c0-924c-66657cfaaa63; Temperature Range: -25 to +85 degC; Value: 330uH; ComponentLink1Description: Datasheet; ComponentLink1URL: E:\NEW_DATA\ELECTRONIC_DOCUMENT\DATASHEET\AXAIL_IND.pdf
simulation model Inductor (Basic inductor)
footprint IND_330UH_AXIAL_300MIL
footprint IND_330UH_AXIAL_200MIL
footprint IND_330UH_AXIAL_100MIL
pins: 1, 2

## IND_470UH_0307
designator L?, comment 470uH
AXIAL LEAD TYPE INDUCTOR, Imax=55mA; Container: Inductors_Box; Label: P1023; Price: 0.009; Package: TH; Stock: 20; Manufacturer: https://shopee.vn/Set-120-linh-ki%E1%BB%87n-c%E1%BA%A3m-bi%E1%BA%BFn-0307-1-4W-1UH-1MH-chuy%C3%AAn-d%E1%BB%A5ng-i.101758806.1635771597?sp_atk=b230f303-f7a3-41c0-924c-66657cfaaa63&xptdk=b230f303-f7a3-41c0-924c-66657cfaaa63; Temperature Range: -25 to +85 degC; Value: 470uH; ComponentLink1Description: Datasheet; ComponentLink1URL: E:\NEW_DATA\ELECTRONIC_DOCUMENT\DATASHEET\AXAIL_IND.pdf
simulation model Inductor (Basic inductor)
footprint IND_470UH_AXIAL_300MIL
footprint IND_470UH_AXIAL_200MIL
footprint IND_470UH_AXIAL_100MIL
pins: 1, 2

## IND_560UH_0307
designator L?, comment 560uH
AXIAL LEAD TYPE INDUCTOR, Imax=50mA; Container: Inductors_Box; Label: P1023; Price: 0.009; Package: TH; Stock: 20; Manufacturer: https://shopee.vn/Set-120-linh-ki%E1%BB%87n-c%E1%BA%A3m-bi%E1%BA%BFn-0307-1-4W-1UH-1MH-chuy%C3%AAn-d%E1%BB%A5ng-i.101758806.1635771597?sp_atk=b230f303-f7a3-41c0-924c-66657cfaaa63&xptdk=b230f303-f7a3-41c0-924c-66657cfaaa63; Temperature Range: -25 to +85 degC; Value: 560uH; ComponentLink1Description: Datasheet; ComponentLink1URL: E:\NEW_DATA\ELECTRONIC_DOCUMENT\DATASHEET\AXAIL_IND.pdf
simulation model Inductor (Basic inductor)
footprint IND_560UH_AXIAL_300MIL
footprint IND_560UH_AXIAL_200MIL
footprint IND_560UH_AXIAL_100MIL
pins: 1, 2

## IND_COUPLED-2
designator L?, comment COUPLED-2
COUPLED INDUCTOR 2; Container: Inductors_Box; Label: 4426_33uH; Inductance A: 33uH; Coupling Factor: 0.95; KA: 0.98; L1: 1uH; Price: 0.1; Package: TH; Stock: 0; Manufacturer: https://shopee.vn/Set-10-Cu%E1%BB%99n-D%C3%A2y-C%E1%BA%A3m-%E1%BB%A8ng-T%E1%BB%AB-T%C3%ADnh-5026-33-47-68-100UH-6A-i.81431289.15993908560; Temperature Range: -40 to +125 degC; Inductance B: 33uH; L2: 1uH
simulation model IIND_COUPLED_2 (Model Description)
part A pins: 1, 2
part B pins: 3, 4

## IND_COUPLED-4
designator L?, comment COUPLED-4
COUPLED INDUCTOR 4; Container: Inductors_Box; Label: 4426_33uH; Inductance A: 33uH; Coupling Factor: 0.95; KA: 0.98; L1: 1uH; Price: 0.1; Package: TH; Stock: 0; Manufacturer: https://shopee.vn/Set-10-Cu%E1%BB%99n-D%C3%A2y-C%E1%BA%A3m-%E1%BB%A8ng-T%E1%BB%AB-T%C3%ADnh-5026-33-47-68-100UH-6A-i.81431289.15993908560; Temperature Range: -40 to +125 degC; Inductance B: 33uH; L3: 1uH; L2: 1uH; L4: 1uH
simulation model IIND_COUPLED_4 (Model Description)
part A pins: 1, 2
part B pins: 3, 4
part C pins: 5, 6
part D pins: 7, 8

## IND_COUPLED_4426
designator L?, comment 33uH
AXIAL LEAD TYPE INDUCTOR, Imax=120mA; Container: Inductors_Box; Label: 4426_33uH; Coupling Factor: 0.95; Price: 0.1; Package: TH; Stock: 1; Manufacturer: https://shopee.vn/Set-10-Cu%E1%BB%99n-D%C3%A2y-C%E1%BA%A3m-%E1%BB%A8ng-T%E1%BB%AB-T%C3%ADnh-5026-33-47-68-100UH-6A-i.81431289.15993908560; Temperature Range: -40 to +125 degC; ComponentLink1Description: Datasheet; ComponentLink1URL: E:\NEW_DATA\ELECTRONIC_DOCUMENT\DATASHEET\CWS-1TC-11892 REV.A1.pdf; Inductance A: 33uH; Inductance B: 33uH
footprint IND_4426_COUPLED
simulation model IND_COUPLED (Model Description)
pins: 1, 2, 3, 4

## JP1
designator J?, comment JUMPER
3MM PAD; Package: TH
footprint MY_PAD_3MM
pins: 0

## JP1_IN
designator J?, comment JUMPER
3MM PAD; Package: TH
footprint MY_PAD_3MM
pins: 0

## JP2
designator J?, comment JUMPER
Package: TH
footprint KF2/5.08
footprint KF2/5.08T (Header 2, 2 pin, hight 300mil, Pin to Pin 200, Colour Green)
footprint Header 2P (CON2)
part A pins: 1
part B pins: 2

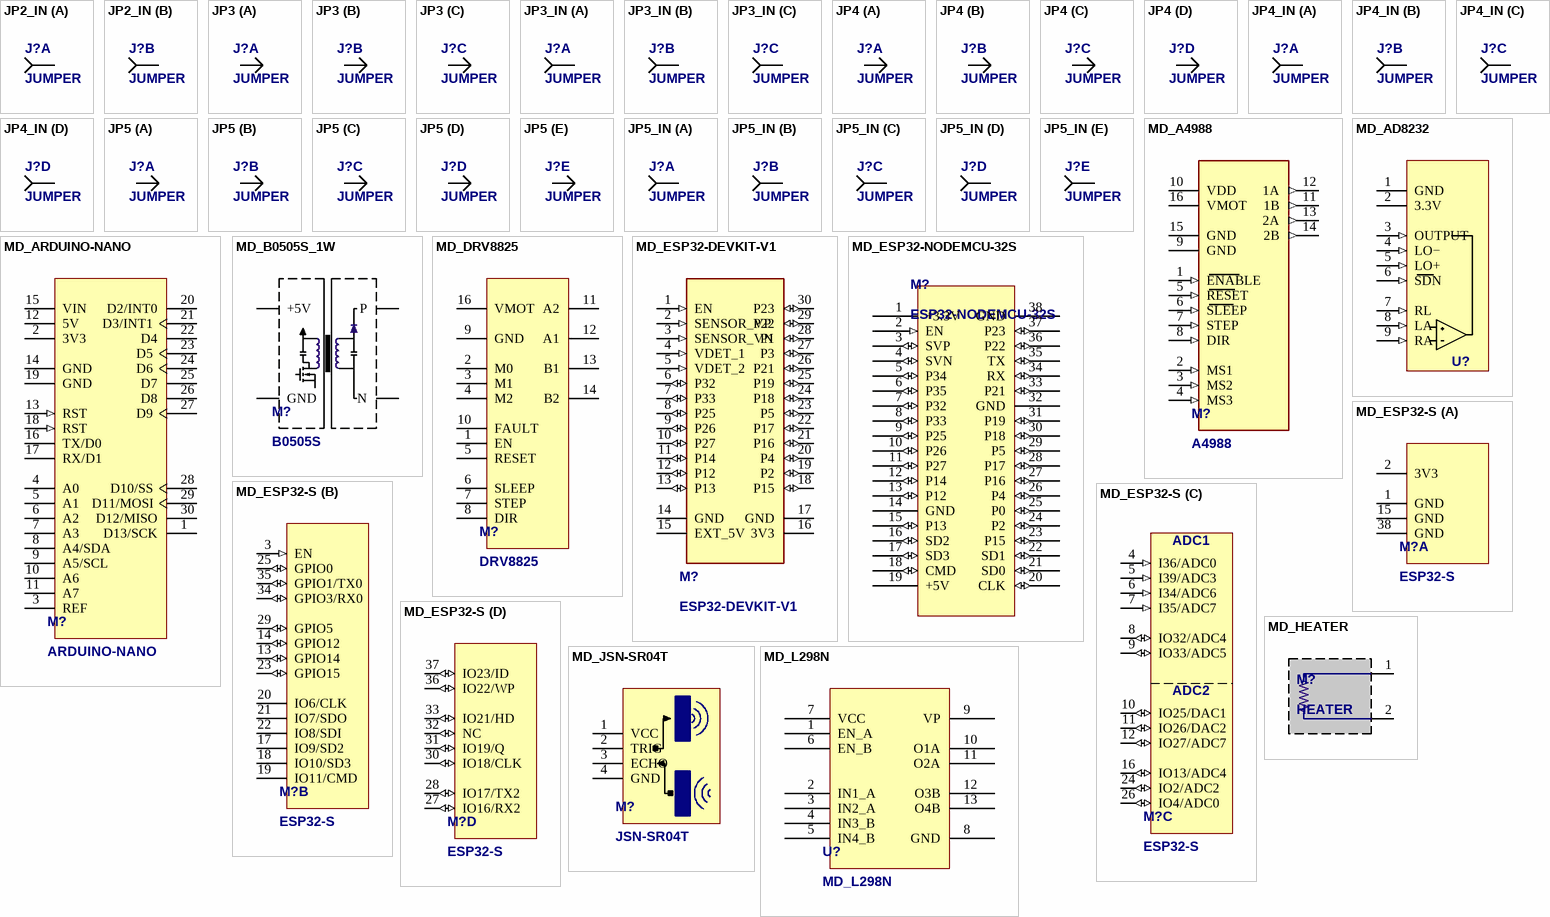
[diagram p6: symbols JP2_IN to MD_L298N]

## JP2_IN
designator J?, comment JUMPER
Package: TH
footprint KF2/5.08
footprint KF2/5.08T (Header 2, 2 pin, hight 300mil, Pin to Pin 200, Colour Green)
footprint Header 2P (CON2)
part A pins: 1
part B pins: 2

## JP3
designator J?, comment JUMPER
Package: TH
footprint KF3/5.08
footprint KF3/5.08T (Header 3, 3 pin, hight 300mil, Pin to Pin 200, Colour Green)
part A pins: 1
part B pins: 2
part C pins: 3

## JP3_IN
designator J?, comment JUMPER
Package: TH
footprint KF3/5.08
footprint KF3/5.08T (Header 3, 3 pin, hight 300mil, Pin to Pin 200, Colour Green)
part A pins: 1
part B pins: 2
part C pins: 3

## JP4
designator J?, comment JUMPER
Package: TH
footprint KF4_5.08
footprint Header 4P (CON4)
footprint JP4-D1T (4 pins, 1 row, straight, gold plating)
footprint JP4-D1C (4 pins, 1 row, right angled, gold plating)
footprint JP4-C1T (4 row, straight, gold plating)
footprint JP4-C1C (04p 1 row Right angle)
part A pins: 1
part B pins: 2
part C pins: 3
part D pins: 4

## JP4_IN
designator J?, comment JUMPER
Package: TH
footprint KF4_5.08
footprint Header 4P (CON4)
footprint JP4-D1T (4 pins, 1 row, straight, gold plating)
footprint JP4-D1C (4 pins, 1 row, right angled, gold plating)
footprint JP4-C1T (4 row, straight, gold plating)
footprint JP4-C1C (04p 1 row Right angle)
part A pins: 1
part B pins: 2
part C pins: 3
part D pins: 4

## JP5
designator J?, comment JUMPER
Package: TH
footprint JP5-D1T (5 pins, 1 row, straight, gold plating)
footprint JP5-D1C (5 pins, 1 row, right angled, gold plating)
footprint JP5-C1T (5 row, straight, gold plating)
footprint JP5-C1C (05p 1 row Right angle)
footprint Header 5P (CON5)
part A pins: 1
part B pins: 2
part C pins: 3
part D pins: 4
part E pins: 5

## JP5_IN
designator J?, comment JUMPER
Package: TH
footprint JP5-D1T (5 pins, 1 row, straight, gold plating)
footprint JP5-D1C (5 pins, 1 row, right angled, gold plating)
footprint JP5-C1T (5 row, straight, gold plating)
footprint JP5-C1C (05p 1 row Right angle)
footprint Header 5P (CON5)
part A pins: 1
part B pins: 2
part C pins: 3
part D pins: 4
part E pins: 5

## MD_A4988
designator M?, comment A4988
DMOS Microstepping Driver with Translator / And Overcurrent Protection. (STEPPER MOTOR DRIVER - 1/16 MAX); Container: PCB-MODULE_BOX; Price: 1.09; Package: TH; Stock: 0; Label: A4988; Manufacturer: https://shopee.vn/Module-%C4%91i%E1%BB%81u-khi%E1%BB%83n-%C4%91%E1%BB%99ng-c%C6%A1-A4988-DRV8825-(K%C3%A8m-T%E1%BA%A3n-Nhi%E1%BB%87t)-i.48272690.2396340547?sp_atk=04b430be-39ab-4e3b-bd04-a88c84f91398&xptdk=04b430be-39ab-4e3b-bd04-a88c84f91398; Temperature Range: -20 to +85 degC; ComponentLink1Description: Datasheet; ComponentLink1URL: E:\NEW_DATA\ELECTRONIC_DOCUMENT\DATASHEET\A4988.pdf
footprint MODULE_A4988_STEPPER_MOTOR_DRIVER_CARRIER
pins: 1 ENABLE (in), 2 MS1 (in), 3 MS2 (in), 4 MS3 (in), 5 RESET (in), 6 SLEEP (in), 7 STEP (in), 8 DIR (in), 9 GND (power), 10 VDD (power), 11 1B (out), 12 1A (out), 13 2A (out), 14 2B (out), 15 GND (power), 16 VMOT (power)

## MD_AD8232
designator U?, comment AD8232  (value not drawn)
Single-Lead, Heart Rate Monitor Front End (ECG).; Container: PCB-MODULE_BOX; ComponentLink1Description: Datasheet; ComponentLink1URL: https://components101.com/modules/ad8232-ecg-module; Price: 3.91; Package: TH; Stock: 0; Label: AD8232; Manufacturer: https://shopee.vn/M%C3%B4-%C4%91un-c%E1%BA%A3m-bi%E1%BA%BFn-Ecg-Ad8232-Ecg-ch%E1%BA%A5t-l%C6%B0%E1%BB%A3ng-cao-i.81431289.10866846378?sp_atk=dc2d327b-3a68-4f21-9b10-d8b34fc3b993&xptdk=dc2d327b-3a68-4f21-9b10-d8b34fc3b993; Temperature Range: -40 to +85 degC
pins: 1 GND (power), 2 3.3V (power), 3 OUTPUT (in), 4 LO− (in), 5 LO+ (in), 6 SDN (in), 7 RL (in), 8 LA (in), 9 RA (in)

## MD_ARDUINO-NANO
designator M?, comment ARDUINO-NANO
A breadboard-friendly board based on the ATMEGA328 kit; Container: MCU_BOX; Price: 3.26; Package: TH; Stock: 1; Temperature Range: -40 to +105 degC; ComponentLink1Description: Datasheet; ComponentLink1URL: E:\NEW_DATA\ELECTRONIC_DOCUMENT\DATASHEET\Arduino Nano.pdf
footprint ARDUINONANOKIT
pins: 1 D13/SCK, 2 3V3 (power), 3 REF, 4 A0, 5 A1, 6 A2, 7 A3, 8 A4/SDA, 9 A5/SCL, 10 A6, 11 A7, 12 5V (power), 13 RST (in), 14 GND (power), 15 VIN (power), 16 TX/D0, 17 RX/D1, 18 RST (in), 19 GND (power), 20 D2/INT0, 21 D3/INT1, 22 D4, 23 D5, 24 D6, 25 D7, 26 D8, 27 D9, 28 D10/SS, 29 D11/MOSI, 30 D12/MISO

## MD_B0505S_1W
designator M?, comment B0505S
Price: 0.56; Package: TH
pins: 1 GND, 2 +5V, 3 N, 4 P

## MD_DRV8825
designator M?, comment DRV8825
DRV8825 Stepper Motor Controller.; Container: PCB-MODULE_BOX; Label: STEPPER_DRIVER; Temperature Range: -40 to +125 degC; Price: 1.52; Package: DIP; Stock: 0; Manufacturer: https://shopee.vn/product/104103144/4371742986; ComponentLink1Description: Datasheet; ComponentLink1URL: E:\NEW_DATA\ELECTRONIC_DOCUMENT\DATASHEET\drv8825.pdf
footprint MODULE_DRV8825
pins: 1 EN (power), 2 M0 (power), 3 M1 (power), 4 M2 (power), 5 RESET (power), 6 SLEEP (power), 7 STEP (power), 8 DIR (power), 9 GND (power), 10 FAULT (power), 11 A2 (power), 12 A1 (power), 13 B1 (power), 14 B2 (power), 16 VMOT (power)

## MD_ESP32-DEVKIT-V1
designator M?, comment ESP32-DEVKIT-V1
It is based on the ESP32 microcontroller that boasts Wifi, Bluetooth, Ethernet and Low Power support all in a single chip.; Container: MCU_BOX; Label: ESP32_DEVKIT; Price: 5.0; Package: TH; Stock: 0; Manufacturer: https://www.lazada.vn/products/i1444648428-s5979676776.html?urlFlag=true&mp=1&tradePath=omItm&spm=spm%3Da2o4n.order_details.item_title.1; Temperature Range: -40 to +125 degC; ComponentLink1Description: Datasheet; ComponentLink1URL: E:\NEW_DATA\ELECTRONIC_DOCUMENT\DATASHEET\ESP32 MODULE.pdf
footprint MODULE_ESP32-DEVKITC-32D
pins: 1 EN (in) "RESET/ ENABLE", 2 SENSOR_VP (in) "SENSOR_VP/ GPI-36/ ADC1_CHO", 3 SENSOR_VN (in) "SENSOR_VN/ GPI-39/ ADC1_CH3", 4 VDET_1 (in) "VDET_1/ GPI-34/ ADC1_CH6", 5 VDET_2 (in) "VDET_2/ GPI-35/ ADC1_CH7", 6 P32 (io) "GPIO32/ XTAL_32K_P/ ADC1_CH4", 7 P33 (io) "GPIO33/ XTAL_32K_N/ ADC1_CH5", 8 P25 (io) "GPIO25/ ADC2_CH8/ DAC_1", 9 P26 (io) "GPIO26/ ADC2_CH9/ DAC_2", 10 P27 (io) "GPIO27/ ADC2_CH7", 11 P14 (io) "GPIO14/ HSPI_CLK/ ADC2_CH6", 12 P12 (io) "GPIO12/ HSPI_MISO/ ADC2_CH5", 13 P13 (io) "GPIO13/ HSPI_MOSI/ ADC2_CH4", 14 GND (power), 15 EXT_5V (power), 16 3V3 (power), 17 GND (power), 18 P15 (io) "GPIO15/ ADC2_CH3/ HSPI CS0/ TOUCH3", 19 P2 (io) "GPIO2/ ADC2_CH2/ TOUCH2", 20 P4 (io) "GPIO4/ ADC2_CH0/ TOUCH0", 21 P16 (io) "GPIO16/ UART 2 RX", 22 P17 (io) "GPIO17/ UART 2 TX", 23 P5 (io) "GPIO5/ VSPI CS0", 24 P18 (io) "GPIO18/ VSPI CLK", 25 P19 (io) "GPIO19/ VSPI MISO", 26 P21 (io) "I2C SDA/ GPIO21", 27 P3 (io) "GPIO1 / UART 0 RX", 28 P1 (io) "GPIO1/ UART 0 TX", 29 P22 (io) "GPIO22/ I2C SCL", 30 P23 (io) "GPIO23/ VSPI MOSI"

## MD_ESP32-NODEMCU-32S
designator M?, comment ESP32-NODEMCU-32S
It based on ESP32, features WiFi+Bluetooth connectivity, onboard CP2102 and keys.; Container: MCU_BOX; ComponentLink1Description: Datasheet; ComponentLink1URL: https://docs.ai-thinker.com/_media/esp32/docs/nodemcu-32s_product_specification.pdf; Price: 8.26; Package: TH; Stock: 0; Label: ESP32-NODEMCU-32S; Manufacturer: https://hshop.vn/products/kit-rf-thu-phat-wifi-ble-esp32-nodemcu-32s-ch340-ai-thinker; Temperature Range: -40 to +125 degC
footprint ESP32S_MODULE
pins: 1 +3.3V (power), 2 EN (in), 3 SVP (io), 4 SVN (io), 5 P34 (io), 6 P35 (io), 7 P32 (io), 8 P33 (io), 9 P25 (io), 10 P26 (io), 11 P27 (io), 12 P14 (io), 13 P12 (io), 14 GND (power), 15 P13 (io), 16 SD2 (io), 17 SD3 (io), 18 CMD (io), 19 +5V (power), 20 CLK (io), 21 SD0 (io), 22 SD1 (io), 23 P15 (io), 24 P2 (io), 25 P0 (io), 26 P4 (io), 27 P16 (io), 28 P17 (io), 29 P5 (io), 30 P18 (io), 31 P19 (io), 32 GND (power), 33 P21 (io), 34 RX (io), 35 TX (io), 36 P22 (io), 37 P23 (io), 38 GND (power)

## MD_ESP32-S
designator M?, comment ESP32-S
Tensilica Xtensa LX6 microprocessor @ 160 or 240 MHz · 320 KiB SRAM, MCU; Container: ICs_Box; Temperature Range: -40 to +125 degC; Price: 2.3; Package: SMD; Stock: 0; Label: MCU; Manufacturer: https://shopee.vn/M%C3%B4-%C4%90un-Wifi-Kh%C3%B4ng-D%C3%A2y-Esp32-Esp32-Wroom-Esp32-Wrover-Esp32-Wroom-32D-32U-Esp32-Wrover-I-Ib-B-i.81431289.10939223124; ComponentLink1Description: Datasheet; ComponentLink1URL: E:\NEW_DATA\ELECTRONIC_DOCUMENT\DATASHEET\esp-wroom-32_datasheet_en-1223836.pdf
footprint ESP32-S-Footprint
part A pins: 1 GND, 2 3V3, 15 GND, 38 GND
part B pins: 3 EN (in), 13 GPIO14 (io), 14 GPIO12 (io), 17 IO9/SD2, 18 IO10/SD3, 19 IO11/CMD, 20 IO6/CLK, 21 IO7/SDO, 22 IO8/SDI, 23 GPIO15 (io), 25 GPIO0 (io), 29 GPIO5 (io), 34 GPIO3/RX0 (io), 35 GPIO1/TX0 (io)
part C pins: 4 I36/ADC0 (in), 5 I39/ADC3 (in), 6 I34/ADC6 (in), 7 I35/ADC7 (in), 8 IO32/ADC4 (io), 9 IO33/ADC5 (io), 10 IO25/DAC1 (io), 11 IO26/DAC2 (io), 12 IO27/ADC7 (io), 16 IO13/ADC4 (io), 24 IO2/ADC2 (io), 26 IO4/ADC0 (io)
part D pins: 27 IO16/RX2 (io), 28 IO17/TX2 (io), 30 IO18/CLK (io), 31 IO19/Q (io), 32 NC (io), 33 IO21/HD (io), 36 IO22/WP (io), 37 IO23/ID (io)
part C text: ADC1; ADC2

## MD_HEATER
designator M?, comment HEATER
Resistive heater; Container: Bus_Wire_Box; Label: XH2.54; Price: 0.009; Package: TH; Stock: 14; Manufacturer: https://shopee.vn/%C4%90%E1%BA%A7u-n%E1%BB%91i-XH2.54-%C4%90%E1%BB%B1c-C%C3%A1i-C%C3%A1c-Lo%E1%BA%A1i-Header-XH2.54-lo%E1%BA%A1i-%C4%91%E1%BB%B1c-th%E1%BA%B3ng-i.151571719.3589152280?sp_atk=5406bfb8-bf62-463e-a06d-2acb89645f90&xptdk=5406bfb8-bf62-463e-a06d-2acb89645f90; Temperature Range: -25 to +85 degC
footprint Header 2P (CON2)
pins: 1, 2

## MD_JSN-SR04T
designator M?, comment JSN-SR04T
20-600cm Ultrasonic Waterproof Range Finder.; Container: PCB-MODULE_BOX; Label: JSN-SR04T-2.0; Package: TH; Stock: 4.7; Manufacturer: https://shopee.vn/M%C3%B4-%C4%90un-C%E1%BA%A3m-Bi%E1%BA%BFn-Si%C3%AAu-%C3%82m-Ch%E1%BB%91ng-N%C6%B0%E1%BB%9Bc-Jsn-Sr04T-i.148048328.5708125346?sp_atk=6efc0046-99f0-448f-8ed6-0d9f4c3fc7ca&xptdk=6efc0046-99f0-448f-8ed6-0d9f4c3fc7ca; Temperature Range: -20 to +70 degC; ComponentLink1Description: Datasheet; ComponentLink1URL: E:\NEW_DATA\ELECTRONIC_DOCUMENT\DATASHEET\JSN-SR04T-2.0.pdf
footprint JSN-SR04T
pins: 1 VCC, 2 TRIG, 3 ECHO, 4 GND

## MD_L298N
designator U?
L298N Dual H-Bridge Motor Driver. (Imax 2A - Vmax 40V); Container: PCB-MODULE_BOX; Package: TH; Stock: 0; Label: MD_L298N; Manufacturer: https://shopee.vn/M%E1%BA%A1ch-%C4%90i%E1%BB%81u-Khi%E1%BB%83n-%C4%90%E1%BB%99ng-C%C6%A1-DC-L298N-C%E1%BA%A7u-H-2A-i.227331197.7656707333?sp_atk=7b3c4a9a-a74c-4960-a536-938f87da60bf&xptdk=7b3c4a9a-a74c-4960-a536-938f87da60bf; Temperature Range: -25 to +130 degC; Price: 1.4; ComponentLink1Description: Datasheet; ComponentLink1URL: E:\NEW_DATA\ELECTRONIC_DOCUMENT\DATASHEET\L298N Motor Driver.pdf
footprint L298N_MODULE
pins: 1 EN_A, 2 IN1_A, 3 IN2_A, 4 IN3_B, 5 IN4_B, 6 EN_B, 7 VCC, 8 GND, 9 VP, 10 O1A, 11 O2A, 12 O3B, 13 O4B

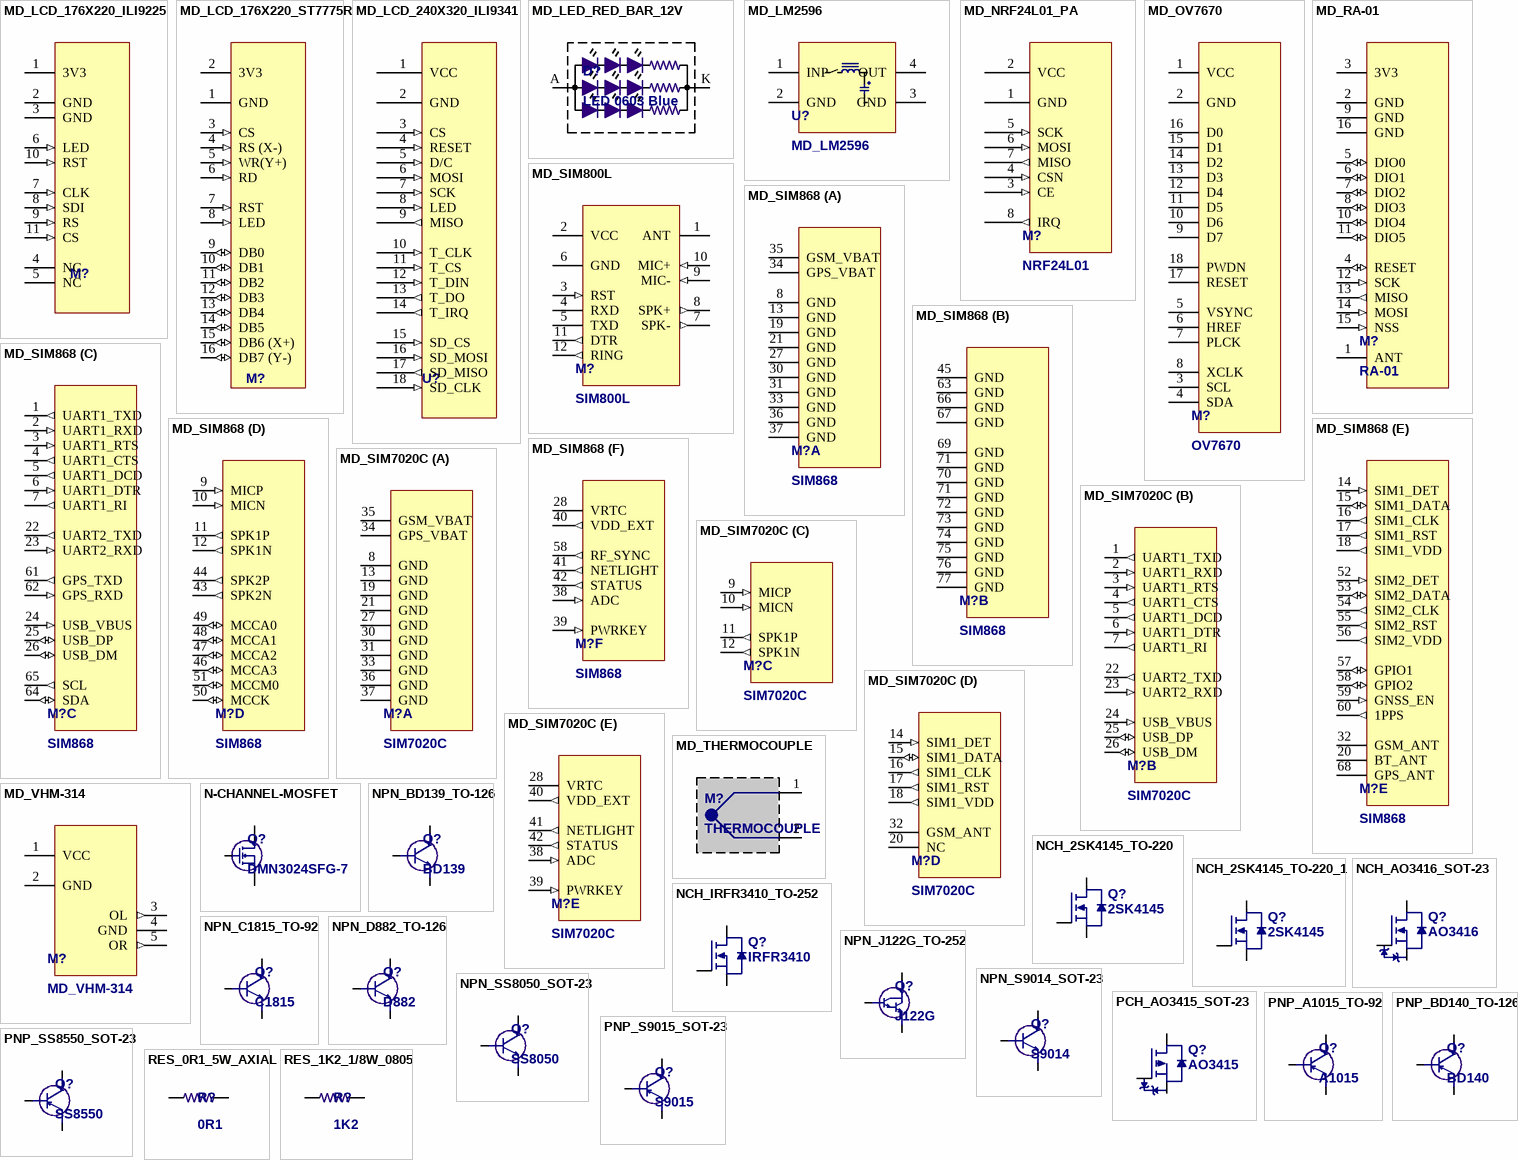
[diagram p7: symbols MD_LCD_176X220_ILI9225 to RES_1K2_1/8W_0805]

## MD_LCD_176X220_ILI9225
designator M?, comment ILI9225  (value not drawn)
a-Si TFT LCD Single Chip Driver / 176RGBx220 Resolution and 262K color.; Container: PCB-MODULE_BOX; ComponentLink1Description: Datasheet; ComponentLink1URL: E:\NEW_DATA\ELECTRONIC_DOCUMENT\DATASHEET\Datasheet_ILI9225DS_V022.pdf; Package: TH; Price: 3.91; Label: ILI9225; Manufacturer: https://item.taobao.com/item.htm?spm=a1z10.3-c-s.w4002-24881783314.23.1c42546eBJ8oQN&id=38360709299; Temperature Range: -30 to +85 degC; Stock: 0
footprint LCD_176X220_TFT_10MM
pins: 1 3V3 (power), 2 GND (power), 3 GND (power), 4 NC, 5 NC, 6 LED (in), 7 CLK (in), 8 SDI (in), 9 RS (in), 10 RST (in), 11 CS (in)

## MD_LCD_176X220_ST7775R
designator M?, comment ST7775R  (value not drawn)
176x220 TFT LCD display screen ST7775R with MCU interface. (Module); Container: PCB-MODULE_BOX; ComponentLink1Description: Datasheet; ComponentLink1URL: http://www.lcdwiki.com/2.8inch_SPI_Module_ILI9341_SKU:MSP2807; Package: TH; Price: 3.04; Label: ST7775R; Manufacturer: https://shopee.vn/M%C3%B4-%C4%91un-m%C3%A0n-h%C3%ACnh-c%E1%BA%A3m-%E1%BB%A9ng-3.3V-TFT-LCD-2.0-k%C3%A8m-b%C3%BAt-cho-Arduino-i.49446409.19053501048?sp_atk=c7eb8ea5-9ac4-4a9a-af5d-35f36a257de2&xptdk=c7eb8ea5-9ac4-4a9a-af5d-35f36a257de2; Temperature Range: -30 to +85 degC; Stock: 0
footprint LCD_176X220_MODULE
pins: 1 GND (power), 2 3V3 (power), 3 CS (in), 4 RS (X-) (in), 5 WR(Y+) (in), 6 RD (in), 7 RST (in), 8 LED (in), 9 DB0 (io), 10 DB1 (io), 11 DB2 (io), 12 DB3 (io), 13 DB4 (io), 14 DB5 (io), 15 DB6 (X+) (io), 16 DB7 (Y-) (io)

## MD_LCD_240X320_ILI9341
designator U?, comment ILI9341  (value not drawn)
SPI TFT Display Module ILI9341.; Container: PCB-MODULE_BOX; ComponentLink1Description: Datasheet; ComponentLink1URL: http://www.lcdwiki.com/2.8inch_SPI_Module_ILI9341_SKU:MSP2807; Package: TH; Stock: 0; Label: ILI9341; Manufacturer: https://shopee.vn/M%C3%B4-%C4%91un-%C4%91i%E1%BB%81u-khi%E1%BB%83n-c%E1%BA%A3m-%E1%BB%A9ng-v%E1%BB%9Bi-m%C3%A0n-h%C3%ACnh-LED-tr%E1%BA%AFng-n%E1%BB%91i-ti%E1%BA%BFp-PBC-ILI9341-2.8-inch-SPI-k%C3%A8m-b%C3%BAt-c%E1%BA%A3m-%E1%BB%A9ng-i.165498337.7653074637?sp_atk=2d16d1fd-dc08-4611-b3da-9bb489fb376e&xptdk=2d16d1fd-dc08-4611-b3da-9bb489fb376e; Temperature Range: -30 to +85 degC; Price: 7.96
footprint LCD_240X320_MODULE
pins: 1 VCC (power), 2 GND (power), 3 CS (in), 4 RESET (in), 5 D/C (in), 6 MOSI (in), 7 SCK (in), 8 LED (in), 9 MISO (out), 10 T_CLK (in), 11 T_CS (in), 12 T_DIN (in), 13 T_DO (out), 14 T_IRQ (out), 15 SD_CS (in), 16 SD_MOSI (in), 17 SD_MISO (out), 18 SD_CLK (in)

## MD_LED_RED_BAR_12V
designator D?, comment LED 0603 Blue
LED RED BAR 12V; Container: Diodes_Box; Label: LED-BAR-RED-12V; Price: 0; Package: TH; Stock: 13
pins: A, K

## MD_LM2596
designator U?
LM2596 DC-DC Adjustable PSU Module.; Container: PCB-MODULE_BOX; ComponentLink1Description: Datasheet; ComponentLink1URL: E:\NEW_DATA\ELECTRONIC_DOCUMENT\DATASHEET\20150123144301750.pdf; Package: TH; Price: 0.48; Label: LM2596; Manufacturer: https://shopee.vn/M%C3%B4-%C4%91un-h%E1%BA%A1-%C3%A1p-LM2596-LM2596S-DC-DC-ch%E1%BA%A5t-l%C6%B0%E1%BB%A3ng-t%E1%BB%91t-i.578443443.13742237528?sp_atk=7a778020-2756-4391-a56d-3ea9f06eaf9e&xptdk=7a778020-2756-4391-a56d-3ea9f06eaf9e; Temperature Range: -40 to +85 degC; Stock: 0
footprint LM2596_MODULE
pins: 1 INP (power), 2 GND (power), 3 GND (power), 4 OUT (power)

## MD_NRF24L01_PA
designator M?, comment NRF24L01
NRF24L01 Single Chip 2.4GHz Transceiver.; Container: PCB-MODULE_BOX; Label: NRF24L01_PA; Package: TH; Stock: 0; Manufacturer: https://shopee.vn/M%C3%B4-%C4%90un-Kh%C3%B4ng-D%C3%A2y-1100M-NRF24L01-PA-LNA-Chuy%C3%AAn-D%E1%BB%A5ng-i.770245757.16667277193?sp_atk=c3438fb0-edf9-4c9a-8d2f-c93abdd20b2c&xptdk=c3438fb0-edf9-4c9a-8d2f-c93abdd20b2c; Temperature Range: -40 to +85 degC; Price: 1.65; ComponentLink1Description: Datasheet; ComponentLink1URL: E:\NEW_DATA\ELECTRONIC_DOCUMENT\DATASHEET\nRF24L01_Product_Specification_v2_0-9199.pdf
footprint MD_NRF24L01P_STAND
footprint MD_NRF24L01P_LIE
footprint MD_NRF24L01P_90
pins: 1 GND (power), 2 VCC, 3 CE (in), 4 CSN (in), 5 SCK (in), 6 MOSI (in), 7 MISO (out), 8 IRQ (out)

## MD_OV7670
designator M?, comment OV7670
CMOS OV7670 Camera Module (1/6-Inch 0.3-Megapixel Module); Container: PCB-MODULE_BOX; Package: TH; Stock: 0; Label: OV7670; Manufacturer: https://shopee.vn/M%C3%B4-%C4%91un-camera-VGA-OV7670-CMOS-640X480-SCCB-W-I2C-cho-Arduino-i.116457233.14710406516?sp_atk=37c53b7b-633e-419e-8264-949a216e9c57&xptdk=37c53b7b-633e-419e-8264-949a216e9c57; Temperature Range: -30 to +70 degC; Price: 1.35; ComponentLink1Description: Datasheet; ComponentLink1URL: E:\NEW_DATA\ELECTRONIC_DOCUMENT\DATASHEET\ov7670_cmos_camera_module_revc_ds.pdf
footprint OV7670
footprint IDC9X2
pins: 1 VCC, 2 GND, 3 SCL, 4 SDA, 5 VSYNC, 6 HREF, 7 PLCK, 8 XCLK, 9 D7, 10 D6, 11 D5, 12 D4, 13 D3, 14 D2, 15 D1, 16 D0, 17 RESET, 18 PWDN

## MD_RA-01
designator M?, comment RA-01
RF chip SX1278, LoRa module.; Container: PCB-MODULE_BOX; Temperature Range: -40 to +125 degC; Price: 2.54; Package: SMD; Stock: 0; Label: RA-01; Manufacturer: https://item.taobao.com/item.htm?spm=a1z10.3-c-s.w4002-24881783314.12.2053546eI5z5CT&id=621186198228; ComponentLink1Description: Datasheet; ComponentLink1URL: E:\NEW_DATA\ELECTRONIC_DOCUMENT\DATASHEET\4753533.pdf; ComponentLink2Description: SX1278; ComponentLink2URL: E:\NEW_DATA\ELECTRONIC_DOCUMENT\DATASHEET\sx1276_77_78_79.pdf
footprint MD_RA-01
pins: 1 ANT, 2 GND (power), 3 3V3 (power), 4 RESET (io), 5 DIO0 (io), 6 DIO1 (io), 7 DIO2 (io), 8 DIO3 (io), 9 GND (power), 10 DIO4 (io), 11 DIO5 (io), 12 SCK (in), 13 MISO (out), 14 MOSI (in), 15 NSS (in), 16 GND (power)

## MD_SIM800L
designator M?, comment SIM800L
SIM800L GPRS GSM Module Quad-band TTL Board. (UART); Container: PCB_MODULE; Package: TH; Stock: 0; Label: SIM800L; Manufacturer: https://shopee.vn/M%C3%B4-%C4%90un-SIM800L-GPRS-GSM-Micro-SIM-D%C3%A0nh-Cho-arduino-i.81431289.11492999560?sp_atk=de328e74-b8bc-4bfd-8adf-f38bfd2d6441&xptdk=de328e74-b8bc-4bfd-8adf-f38bfd2d6441; Temperature Range: -40 to +85 degC; Price: 2.65; ComponentLink1Description: Datasheet; ComponentLink1URL: E:\NEW_DATA\ELECTRONIC_DOCUMENT\DATASHEET\SIM800L module.pdf
footprint SIM800L_M
pins: 1 ANT, 2 VCC (power), 3 RST (in), 4 RXD, 5 TXD, 6 GND (power), 7 SPK- (out), 8 SPK+ (out), 9 MIC- (in), 10 MIC+ (in), 11 DTR (out), 12 RING (out)